# Altium footprint library STM32F207开发板（基本型）V1.0.PcbLib: 31 footprints (part 1 of 2)
Each footprint in its own frame and in the unit in brackets; x right, y up, seen from the top. Pads: shape width x height; smd on the part's side, far side on the other; paste and mask are expansions set on the pad; w line width, h text height; cw(c..) or ccw(c..) is an arc to the next point about the centre after c.
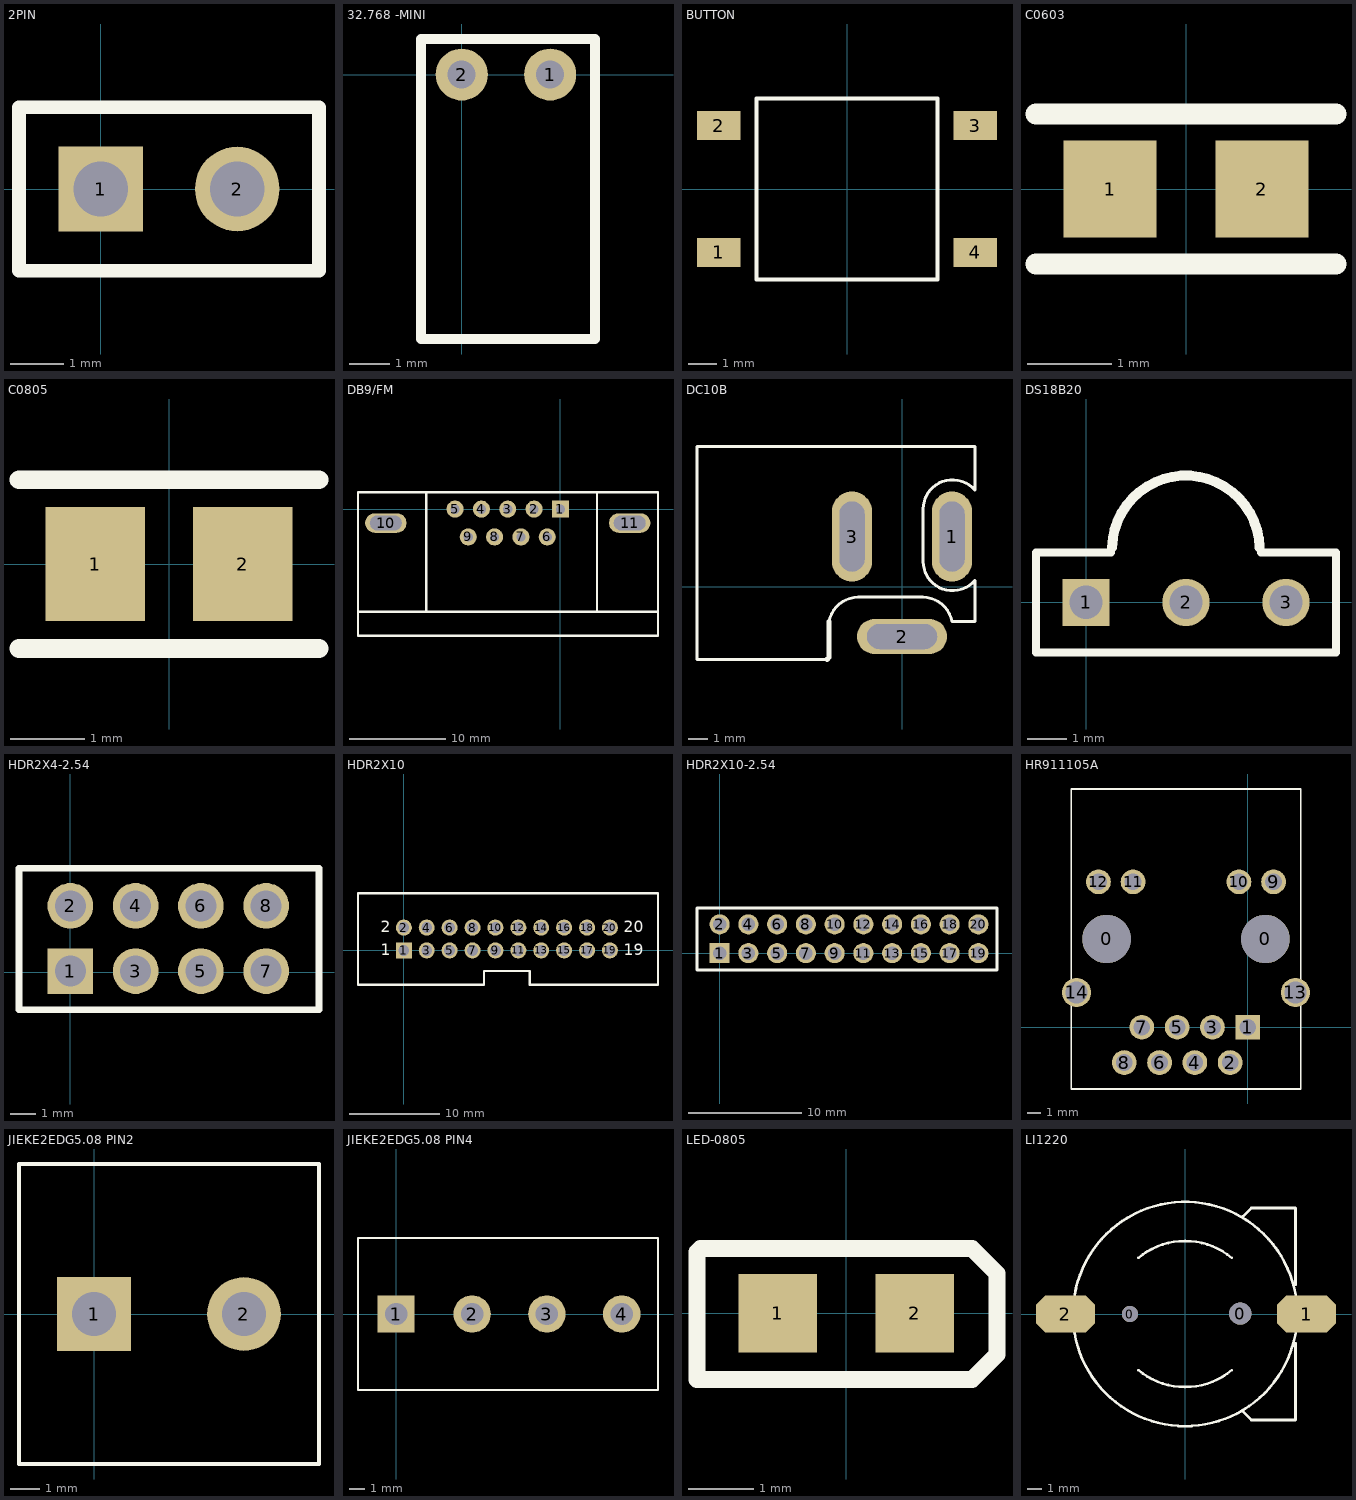
[diagram p0: the footprints below, top view; thin cyan lines are the x and y axes]

## 2PIN [mil]
pads (2):
  rect 62x62 hole 40: 1(0,0)
  round 62 hole 40: 2(100,0)
Top Overlay:
  lines w10: -60,-60 160,-60 160,60 -60,60 -60,-60

## 32.768 -MINI [mm]
pads (2):
  round 1.3 hole 0.7: 1(2.21,0) 2(0,0)
Top Overlay:
  lines w0.254: -1.016,-6.604 3.327,-6.604 3.327,0.889 -1.016,0.889 -1.016,-6.604

## BUTTON [mil]
pads (4):
  rect 60x40 smd: 1(-177.17,-87.5) 2(-177.17,87.5) 3(177.17,87.5) 4(177.17,-87.5)
Top Overlay:
  lines w6: -125,-125 -125,125 125,125 125,-125 -125,-125

## C0603 [mm]
pads (2):
  rect 1.1x1.15 smd: 1(-0.9,0) 2(0.9,0)
Top Overlay:
  lines w0.254: -1.778,-0.889 1.778,-0.889 ; -1.778,0.889 1.778,0.889

## C0805 [mm]
pads (2):
  rect 1.35x1.55 smd: 1(-1,0) 2(1,0)
Top Overlay:
  lines w0.254: -2.032,-1.143 2.032,-1.143 ; -2.032,1.143 2.032,1.143

## DB9/FM [mil]
pads (11):
  rect 70x70 hole 38: 1(0,0)
  round 70 hole 38: 2(-108,0) 3(-216,0) 4(-324,0) 5(-432,0) 6(-54,-114) 7(-162,-114) 8(-270,-114) 9(-378,-114)
  oval 170x80 hole 60 slot 130 at 0 deg: 10(-716,-57) 11(284,-57)
Top Overlay:
  lines w10: -830,-420 400,-420 ; -550,-420 -550,70 ; 150,-420 150,70 ; -830,-520 400,-520 400,70 -830,70 -830,-520

## DC10B [mil]
pads (3):
  oval 80x180 hole 50 slot 140 at 90 deg: 1(100,100) 3(-100,100)
  oval 180x70 hole 50 slot 140 at 0 deg: 2(0,-100)
Top Overlay:
  lines w6: -150,-146 -410,-146 -410,280 146,280 145.83,192.62 ccw(c101,155) 42.48,155 42.48,50 ccw(c101,50) 145.83,12.38 ; -145.63,-69.84 cw(c-88,-80) -88,-21.48 42,-21.48 cw(c42,-80) 99.63,-69.84 ; -85.48,50 -85.48,155 ; 101,-70 146,-70 146,10 ; -85.48,155 -85.48,155
  lines w10: -150,-146 -145.63,-141.63 -145.63,-69.84

## DS18B20 [mm] "Connector; Header; 3 Position"
pads (3):
  rect 1.2x1.2 hole 0.85: 1(0,0)
  round 1.2 hole 0.85: 2(2.54,0) 3(5.08,0)
Top Overlay:
  lines w0.2: 0.635,1.27 -1.27,1.27 -1.27,-1.27 4.42,-1.27 ; 4.445,-1.27 6.35,-1.27 6.35,1.27 4.445,1.27
  lines w0.254: 0.66,1.397 cw(c2.535,1.348) 4.409,1.398

## HDR2X4-2.54 [mil]
pads (8):
  rect 70x70 hole 47.24: 1(0,2)
  round 70 hole 47.24: 2(0,102) 3(100,2) 4(100,102) 5(200,2) 6(200,102) 7(300,2) 8(300,102)
Top Overlay:
  lines w10: -78.74,-57.06 -78.74,21.68 -78.74,159.48 374.02,159.48 381,159.48 381,-57.06 -78.74,-57.06

## HDR2X10 [mil] "Connector; Header; 10x2 Position"
pads (20):
  rect 70x70 hole 47.24: 1(0,0)
  round 70 hole 47.24: 2(0,100) 3(100,0) 4(100,100) 5(200,0) 6(200,100) 7(300,0) 8(300,100) 9(400,0) 10(400,100) 11(500,0) 12(500,100) 13(600,0) 14(600,100) 15(700,0) 16(700,100) 17(800,0) 18(800,100) 19(900,0) 20(900,100)
Top Overlay:
  lines w10: -200,-150 350,-150 350,-90 550,-90 550,-150 780,-150 1110,-150 1110,250 -200,250 -200,-150
  text "2" at -100,80 h50
  text "1" at -100,-20 h50
  text "19" at 960,-20 h50
  text "20" at 960,80 h50

## HDR2X10-2.54 [mil] "Connector; Header; 10x2 Position"
pads (20):
  rect 70x70 hole 47.24: 1(0,0)
  round 70 hole 47.24: 2(0,100) 3(100,0) 4(100,100) 5(200,0) 6(200,100) 7(300,0) 8(300,100) 9(400,0) 10(400,100) 11(500,0) 12(500,100) 13(600,0) 14(600,100) 15(700,0) 16(700,100) 17(800,0) 18(800,100) 19(900,0) 20(900,100)
Top Overlay:
  lines w10: -78.74,-59.06 -78.74,19.68 -78.74,157.48 374.02,157.48 964.57,157.48 964.57,-59.06 -78.74,-59.06

## HR911105A [mil]
pads (16):
  round 137 hole 137 unplated: 0(-400,250) 0(50,250)
  rect 70x70 hole 47.24: 1(0,0)
  round 70 hole 47.24: 2(-50,-100) 3(-100,0) 4(-150,-100) 5(-200,0) 6(-250,-100) 7(-300,0) 8(-350,-100) 9(73.03,411.81) 10(-25,411.81) 11(-325,411.81) 12(-423.03,411.81)
  round 82.68 hole 63: 13(135,98.43) 14(-485,98.43)
Top Overlay:
  lines w5: -500,-175 150,-175 150,675 -500,675 -500,-175

## JIEKE2EDG5.08 PIN2 [mm] "JIEKE2EDG5.08"
pads (2):
  rect 2.5x2.5 hole 1.5: 1(0,0)
  round 2.5 hole 1.5: 2(5.08,0)
Top Overlay:
  lines w0.127: -2.54,-5.08 7.62,-5.08 7.62,5.08 -2.54,5.08 -2.54,-5.08

## JIEKE2EDG5.08 PIN4 [mm] "JIEKE2EDG5.08"
pads (4):
  rect 2.5x2.5 hole 1.5: 1(0,0)
  round 2.5 hole 1.5: 2(5.08,0) 3(10.08,0) 4(15.08,0)
Top Overlay:
  lines w0.127: -2.54,-5.08 17.5,-5.08 17.5,5.08 -2.54,5.08 -2.54,-5.08

## LED-0805 [mm]
pads (2):
  rect 1.2x1.2 smd: 1(-1.05,0) 2(1.05,0)
Top Overlay:
  lines w0.254: -2.286,-1.016 1.93,-1.016 2.311,-0.635 2.311,0.61 1.93,0.991 1.905,0.991 -2.108,0.991 -2.235,0.991 -2.286,0.94 -2.286,-1.016

## LI1220 [mm]
pads (4):
  round 1.1 hole 1.1 unplated: 0(-3.75,0)
  round 1.5 hole 1.5 unplated: 0(3.75,0.025)
  oct 4x2.5 smd: 1(8.255,0) 2(-8.128,0)
Top Overlay:
  lines w0.178: -7.574,-0.833 ccw(c0,0) 0,-7.62 ccw(c0,0) 7.574,-0.833 ; -7.574,0.833 cw(c0,0) 7.574,0.833 ; -3.172,-3.812 ccw(c0,0) 3.169,-3.815 ; -3.172,3.812 cw(c0,0) 3.175,3.81 ; 3.9,-6.6 4.5,-7.2 7.5,-7.2 7.5,-2 ; 3.925,6.625 4.5,7.2 7.5,7.2 7.5,2